# Altium footprint library bq24100.PcbLib: 1 footprints
Each footprint in its own frame and in the unit in brackets; x right, y up, seen from the top. Pads: shape width x height; smd on the part's side, far side on the other; paste and mask are expansions set on the pad; w line width, h text height; cw(c..) or ccw(c..) is an arc to the next point about the centre after c.
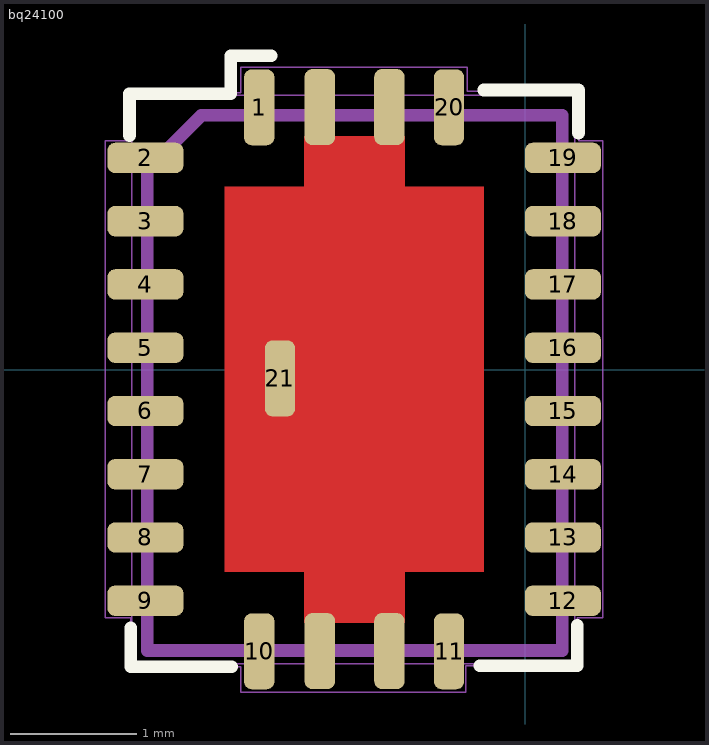
[diagram p0: the footprint, top view; thin cyan lines are the x and y axes]

## bq24100 [mm]
pads (25):
  rrect50% 0.24x0.6 smd mask+0: 1(-2.104,2.073) 10(-2.104,-2.227) 11(-0.604,-2.227) 20(-0.604,2.073) 21(-1.94,-0.07) ""(-1.625,-2.225) ""(-1.625,2.075) ""(-1.075,-2.225) ""(-1.075,2.075)
  rrect50% 0.6x0.24 smd mask+0: 2(-3.004,1.673) 3(-3.004,1.173) 4(-3.004,0.673) 5(-3.004,0.173) 6(-3.004,-0.327) 7(-3.004,-0.827) 8(-3.004,-1.327) 9(-3.004,-1.827) 12(0.296,-1.827) 13(0.296,-1.327) 14(0.296,-0.827) 15(0.296,-0.327) 16(0.296,0.173) 17(0.296,0.673) 18(0.296,1.173) 19(0.296,1.673)
Top Layer:
  rectangle: -2.379,-1.602 -0.329,1.448
  region: -0.95,-1.602 -1.75,-1.602 -1.75,-2.002 -0.95,-2.002
  rectangle: -1.75,1.448 -0.95,1.848
Top Overlay:
  lines w0.1: -3.13,1.85 -3.13,2.18 -2.33,2.18 -2.33,2.48 -2.01,2.48 ; -3.12,-2.04 -3.12,-2.35 -2.32,-2.35 ; -0.36,-2.34 0.41,-2.34 0.41,-2.02 ; -0.33,2.21 0.42,2.21 0.42,1.87
Top Paste:
  rectangle: -1.75,1.574 -0.95,1.848
  rectangle: -1.75,-2.002 -0.95,-1.728
  rectangle: -2.33,-1.55 -1.49,-0.75
  region: -0.38,-1.55 -0.38,-0.75 -1.23,-0.75 -1.23,-1.55
  region: -0.38,1.4 -1.23,1.4 -1.23,0.6 -0.38,0.6
  region: -2.33,1.4 -2.33,0.6 -1.49,0.6 -1.49,1.4
  region: -1.49,-0.48 -1.49,0.33 -2.33,0.33 -2.33,-0.48
  region: -0.38,-0.47 -0.38,0.33 -1.23,0.33 -1.23,-0.47
Top Solder:
  rectangle: -2.379,-1.602 -0.329,1.448
  rectangle: -1.729,1.448 -0.979,1.848
  region: -0.979,-1.602 -1.729,-1.602 -1.729,-2.002 -0.979,-2.002
Mechanical 3:
  lines w0.1: 0.12,-2.22 0.29,-2.22 0.29,2.01 -1.93,2.01 -2.56,2.01 -2.99,1.58 -2.99,1.48 -2.99,-2.22 -2.39,-2.22 0.17,-2.22
Mechanical 5:
  lines w0.01: -3.11,-1.93 -2.75,-1.93 -2.75,-1.72 -3.11,-1.72 ; -3.11,-1.43 -2.75,-1.43 -2.75,-1.22 -3.11,-1.22 ; -3.11,-0.93 -2.75,-0.93 -2.75,-0.72 -3.11,-0.72 ; -3.11,-0.43 -2.75,-0.43 -2.75,-0.22 -3.11,-0.22 ; -3.11,0.07 -2.75,0.07 -2.75,0.28 -3.11,0.28 ; -3.11,1.07 -2.75,1.07 -2.75,1.28 -3.11,1.28 ; -3.11,1.57 -2.75,1.57 -2.75,1.78 -3.11,1.78 ; -3.1,0.57 -2.74,0.57 -2.74,0.78 -3.1,0.78 ; -2.21,-2.32 -2.21,-1.96 -2,-1.96 -2,-2.32 ; -2.21,2.17 -2.21,1.81 -2,1.81 -2,2.17 ; -0.71,-2.33 -0.71,-1.97 -0.5,-1.97 -0.5,-2.33 ; -0.71,2.17 -0.71,1.81 -0.5,1.81 -0.5,2.17 ; 0.39,-1.93 0.03,-1.93 0.03,-1.72 0.39,-1.72 ; 0.39,-1.43 0.03,-1.43 0.03,-1.22 0.39,-1.22 ; 0.39,-0.93 0.03,-0.93 0.03,-0.72 0.39,-0.72 ; 0.39,-0.43 0.03,-0.43 0.03,-0.22 0.39,-0.22 ; 0.39,0.07 0.03,0.07 0.03,0.28 0.39,0.28 ; 0.39,0.57 0.03,0.57 0.03,0.78 0.39,0.78 ; 0.39,1.07 0.03,1.07 0.03,1.28 0.39,1.28 ; 0.39,1.57 0.03,1.57 0.03,1.78 0.39,1.78 ; -3.11,-2.327 -3.11,-2.28 -3.11,-1.31 -3.11,2.17 0.39,2.17 0.39,-2.327 -3.11,-2.327
Mechanical 7:
  lines w0.01: -3.32,-1.72 -3.32,1.81 -3.13,1.81 -3.13,2.19 -2.25,2.19 -2.25,2.39 -0.46,2.39 -0.46,2.2 0.42,2.2 0.42,1.81 0.61,1.81 0.61,-1.96 0.41,-1.96 0.41,-2.34 -0.47,-2.34 -0.47,-2.55 -2.25,-2.55 -2.25,-2.35 -2.44,-2.35 ; -3.32,-1.7 -3.32,-1.96 -3.12,-1.96 -3.12,-2.35 -3.01,-2.35 -2.43,-2.35
Mechanical 9:
  text "'.Designator'" at -6.42,-0.82 h1
3D body "RHL0020A.stp": height 0.97, standoff -0.03, extent -3.104,-2.327 0.396,2.173
3D body: height 1, standoff 0, extent -3.32,-2.55 0.61,2.39